# Altium schematic symbol library Passive.SchLib: 4 symbols
Pins are listed as number, name and electrical type; pins without a type are passive.

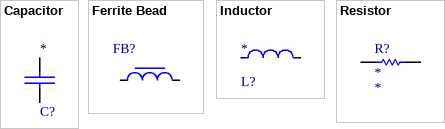
[diagram p0: symbols Capacitor to Resistor]

## Capacitor
designator C?
octopart or digikey description!; Part Number: *; Capacitance: *; Voltage Rating: *
footprint CAP_0402_A (Samsung capacitor)
footprint CAP_0402_B (Samsung capacitor)
footprint CAP_0402_C (Samsung capacitor)
footprint CAP_0603_A (Samsung capacitors)
footprint CAP_0603_B (Samsung capacitors)
footprint CAP_0603_C (Samsung capacitors)
footprint cap_0805_A (Samsung resistor)
footprint cap_0805_B (Samsung resistor)
footprint cap_0805_C (Samsung resistor)
footprint CAP_0402_IPC_A (Chip Capacitor, 2-Leads, Body 1.00x0.50mm, IPC Low Density)
footprint CAP_0402_IPC_B (Chip Capacitor, 2-Leads, Body 1.00x0.50mm, IPC Medium Density)
footprint CAP_0402_IPC_C (Chip Capacitor, 2-Leads, Body 1.00x0.50mm, IPC High Density)
footprint CAP_0805_IPC_A (Chip Capacitor, 2-Leads, Body 2.00x1.25mm, IPC Low Density)
footprint CAP_0805_IPC_B (Chip Capacitor, 2-Leads, Body 2.00x1.25mm, IPC Medium Density)
footprint CAP_0805_IPC_C (Chip Capacitor, 2-Leads, Body 2.00x1.25mm, IPC High Density)
pins: 1, 2

## Ferrite Bead
designator FB?
octopart or digikey description!
footprint FER_0402_A (Samsung resistor)
footprint FER_0402_B (Samsung resistor)
footprint FER_0402_C (Samsung resistor)
footprint FER_0805_A (Samsung resistor)
footprint FER_0805_B (Samsung resistor)
footprint FER_0805_C (Samsung resistor)
footprint IND_0402_IPC_A (Chip Inductor, 2-Leads, Body 1.00x0.50mm, IPC Low Density)
footprint IND_0402_IPC_B (Chip Inductor, 2-Leads, Body 1.00x0.50mm, IPC Medium Density)
footprint IND_0402_IPC_C (Chip Inductor, 2-Leads, Body 1.00x0.50mm, IPC High Density)
pins: 1, 2

## Inductor
designator L?
octopart or digikey description!; Part Number: *; Inductance: *; Current Rating: *
footprint IND_0805_A (Samsung PACKAGE)
footprint IND_0805_B (Samsung PACKAGE)
footprint IND_0805_C (Samsung PACKAGE)
footprint IND_0805_IPC_CV201210_A (Chip Inductor, 2-Leads, Body 2.00x1.25mm, IPC Low Density)
footprint IND_0805_IPC_CV201210_B (Chip Inductor, 2-Leads, Body 2.00x1.25mm, IPC Medium Density)
footprint IND_0805_IPC_CV201210_C (Chip Inductor, 2-Leads, Body 2.00x1.25mm, IPC High Density)
pins: 1, 2

## Resistor
designator R?
octopart or digikey description!; Part Number: *; Resistance: *; Voltage Rating: *; Power Rating: *; Tolerance: *
footprint RES_0201_A (Samsung resistor)
footprint RES_0201_B (Samsung resistor)
footprint RES_0201_C (Samsung resistor)
footprint RES_0201_MFG (Samsung resistor)
footprint RES_0402_A (Samsung resistor)
footprint RES_0402_B (Samsung resistor)
footprint RES_0402_C (Samsung resistor)
footprint RES_0603_A (Samsung resistor)
footprint RES_0603_B (Samsung resistor)
footprint RES_0603_C (Samsung resistor)
footprint RES_0603_MFG (Samsung resistor)
footprint RES_1206_A (Samsung resistor)
footprint RES_1206_B (Samsung resistor)
footprint RES_1206_C (Samsung resistor)
footprint RES_1206_MFG (Samsung resistor)
footprint RES_0805_A (Samsung resistor)
footprint RES_0805_B (Samsung resistor)
footprint RES_0805_C (Samsung resistor)
footprint RES_0805_MFG (Samsung resistor)
footprint RES_0402_IPC_A (Chip Resistor, 2-Leads, Body 1.00x0.50mm, IPC Low Density)
footprint RES_0402_IPC_B (Chip Resistor, 2-Leads, Body 1.00x0.50mm, IPC Medium Density)
footprint RES_0402_IPC_C (Chip Resistor, 2-Leads, Body 1.00x0.50mm, IPC High Density)
footprint RES_0603_Panasonic_ERA3A_A (Chip Resistor, 2-Leads, Body 1.60x0.80mm, IPC Low Density)
footprint RES_0603_Panasonic_ERA3A_B
footprint RES_0603_Panasonic_ERA3A_C
pins: 1, 2